# EAGLE library part K-09421_AE-BME280 (library 01)
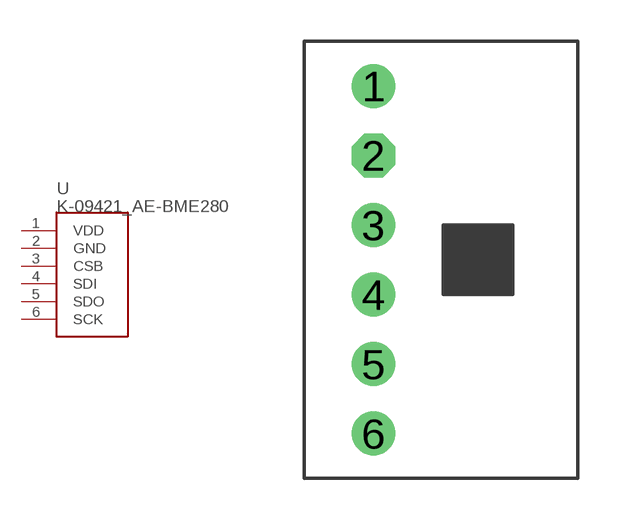
[diagram p4: symbol with the pads of AE-BEM280; footprint AE-BEM280]

Designator prefix U

## K-09421_AE-BME280  [AE-BEM280]
1  VDD
2  GND
3  CSB
4  SDI
5  SDO
6  SCK

## Footprint AE-BEM280 (pad centres in mm)
drill 0.8 pad 1.6: 1 0,6.35; 3 0,1.27; 4 0,-1.27; 5 0,-3.81; 6 0,-6.35
drill 0.8 pad 1.6 octagon: 2 0,3.81